# Altium footprint library Abracon.PcbLib: 4 footprints
Each footprint in its own frame and in the unit in brackets; x right, y up, seen from the top. Pads: shape width x height; smd on the part's side, far side on the other; paste and mask are expansions set on the pad; w line width, h text height; cw(c..) or ccw(c..) is an arc to the next point about the centre after c.
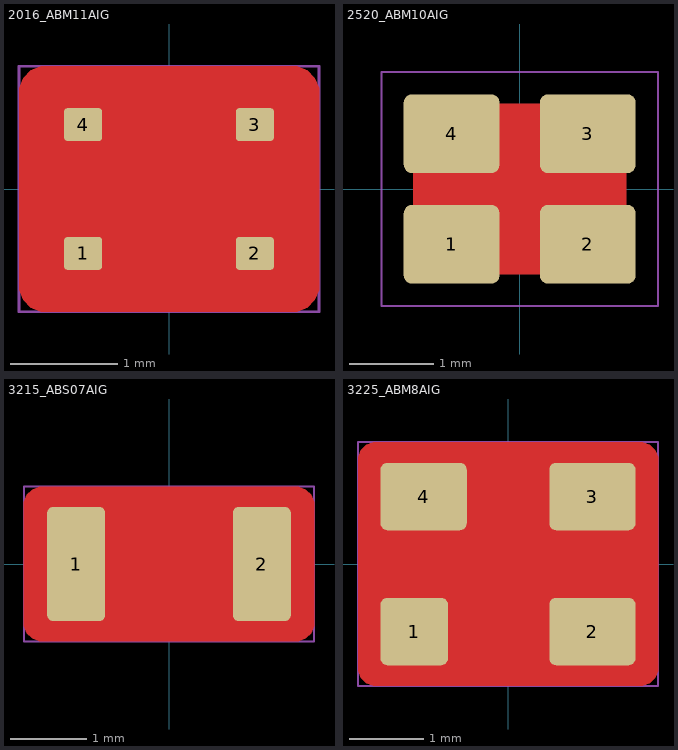
[diagram p0: the footprints below, top view; thin cyan lines are the x and y axes]

## 2016_ABM11AIG [mil] "2.0 mm x 1.6 mm Crystal"
pads (4):
  rrect20% 14x12 smd paste+0 mask+1.5: 1(-31.5,-23.62) 2(31.5,-23.62) 3(31.5,23.62) 4(-31.5,23.62)
Top Layer:
  region: 15.75,9.84 41.34,9.84 41.73,9.84 42.45,10.14 43.01,10.7 43.31,11.42 43.31,11.81 43.31,31.5 43.31,32.28 42.71,33.73 41.6,34.83 40.15,35.43 39.37,35.43 15.75,35.43 15.36,35.43 14.63,35.13 14.08,34.58 13.78,33.86 13.78,33.46 13.78,11.81 13.78,11.42 14.08,10.7 14.63,10.14 15.36,9.84
  pour cut-out: -45,-45 -46.99,-45 -50.66,-43.48 -53.48,-40.66 -55,-36.99 -55,-35 -55,35 -55,36.99 -53.48,40.66 -50.66,43.48 -46.99,45 -45,45 45,45 46.99,45 50.66,43.48 53.48,40.66 55,36.99 55,35 55,-35 55,-36.99 53.48,-40.66 50.66,-43.48 46.99,-45 45,-45
  region: 15.75,-9.84 15.36,-9.84 14.63,-10.14 14.08,-10.7 13.78,-11.42 13.78,-11.81 13.78,-33.46 13.78,-33.86 14.08,-34.58 14.63,-35.13 15.36,-35.43 15.75,-35.43 39.37,-35.43 40.15,-35.43 41.6,-34.83 42.71,-33.73 43.31,-32.28 43.31,-31.5 43.31,-11.81 43.31,-11.42 43.01,-10.7 42.45,-10.14 41.73,-9.84 41.34,-9.84
  region: -39.37,-35.43 -15.75,-35.43 -15.36,-35.43 -14.63,-35.13 -14.08,-34.58 -13.78,-33.86 -13.78,-33.46 -13.78,-19.11 -13.78,-18.78 -13.91,-18.13 -14.16,-17.52 -14.53,-16.97 -14.76,-16.73 -20.26,-11.23 -20.59,-10.9 -21.37,-10.38 -22.24,-10.03 -23.15,-9.84 -23.62,-9.84 -41.34,-9.84 -41.73,-9.84 -42.45,-10.14 -43.01,-10.7 -43.31,-11.42 -43.31,-11.81 -43.31,-31.5 -43.31,-32.28 -42.71,-33.73 -41.6,-34.83 -40.15,-35.43
  region: -39.37,35.43 -40.15,35.43 -41.6,34.83 -42.71,33.73 -43.31,32.28 -43.31,31.5 -43.31,11.81 -43.31,11.42 -43.01,10.7 -42.45,10.14 -41.73,9.84 -41.34,9.84 -15.75,9.84 -15.36,9.84 -14.63,10.14 -14.08,10.7 -13.78,11.42 -13.78,11.81 -13.78,33.46 -13.78,33.86 -14.08,34.58 -14.63,35.13 -15.36,35.43 -15.75,35.43
Top Solder:
  region: -7.87,-31.5 5.91,-40.35 5.91,-22.64
Top Component Outline:
  lines w1: -55,-45 -55,45 55,45 55,-45 -55,-45
Top 3D Body (Mech16):
  lines w1: -39.37,-9.84 -21.65,-9.84 -13.78,-17.72 -13.78,-31.5 ; -39.37,9.84 -13.78,9.84 -13.78,31.5 ; 13.78,-31.5 13.78,-9.84 39.37,-9.84 ; 13.78,31.5 13.78,9.84 39.37,9.84 ; -39.37,-31.5 -39.37,31.5 39.37,31.5 39.37,-31.5 -39.37,-31.5
3D body: height 21.65, standoff 0, extent -39.37,-31.5 39.37,31.5

## 2520_ABM10AIG [mil] "2.5 mm x 2.0 mm Crystal"
pads (4):
  rrect20% 45x37 smd mask+2: 1(-32,-26) 2(32,-26) 3(32,26) 4(-32,26)
Top Layer:
  pour cut-out: -50,40 -50,-40 50,-40 50,40
Top Solder:
  region: -65,-30 -76,-23 -76,-37
Top Component Outline:
  lines w1: -65,-55 -65,55 65,55 65,-55 -65,-55
Top 3D Body (Mech16):
  lines w1: -41.06,34.92 41.06,34.92 cw(c41.06,30.98) 45,30.98 45,-31 cw(c41.06,-31) 41.06,-34.94 ; -41.06,34.94 ccw(c-41.06,31) -45,31 -45,-30.98 ccw(c-41.06,-30.98) -41.06,-34.92 41.06,-34.92 ; -49.21,-35.43 cw(c-49.21,-39.37) -45.28,-39.37 45.28,-39.37 cw(c49.21,-39.37) 49.21,-35.43 49.21,35.43 cw(c49.21,39.37) 45.28,39.37 -45.28,39.37 cw(c-49.21,39.37) -49.21,35.43 -49.21,-35.43 ; -43.03,-30.98 ccw(c-41.06,-30.98) -41.06,-32.95 41.06,-32.95 ccw(c41.06,-30.98) 43.03,-30.98 43.03,31 ccw(c41.06,31) 41.06,32.97 -41.06,32.97 ccw(c-41.06,31) -43.03,31 -43.03,-30.98
3D body: height 22.35, standoff 22.05, extent -30.94,-20.98 -18.99,-9
3D body: height 22.05, standoff 21.26, extent -43.03,-32.95 43.03,32.97
3D body: height 21.65, standoff 8.27, extent -45,-34.92 45,34.92
3D body: height 11.81, standoff 0.39, extent -49.21,-39.37 49.21,39.37
3D body: height 7.87, standoff 0.39, extent -49.21,-39.37 -43.5,-33.5
3D body: height 7.87, standoff 0.39, extent 43.34,-39.37 49.21,-33.66
3D body: height 7.87, standoff 0.39, extent 43.5,33.5 49.21,39.37
3D body: height 7.87, standoff 0.39, extent -49.21,33.66 -43.34,39.37

## 3215_ABS07AIG [mil]
height 40
pads (2):
  rrect20% 30x59 smd paste-2 mask+2: 1(-48,0) 2(48,0)
Top Layer:
  pour cut-out: -65,40 -66.99,40 -70.66,38.48 -73.48,35.66 -75,31.99 -75,30 -75,-30 -75,-31.99 -73.48,-35.66 -70.66,-38.48 -66.99,-40 -65,-40 65,-40 66.99,-40 70.66,-38.48 73.48,-35.66 75,-31.99 75,-30 75,30 75,31.99 73.48,35.66 70.66,38.48 66.99,40 65,40
Top Component Outline:
  lines w1: -75,-40 75,-40 75,40 -75,40 -75,-40
3D body "SM8S.step": height 32.5, standoff 1, extent -62.99,-29.52 63,29.53

## 3225_ABM8AIG [mil] "3.2 mm x 2.5 mm Crystal"
pads (4):
  rrect20% 36x36 smd mask+2: 1(-50,-36)
  rrect20% 46x36 smd mask+2: 2(45,-36) 3(45,36) 4(-45,36)
Top Layer:
  pour cut-out: -70,-65 -71.99,-65 -75.66,-63.48 -78.48,-60.66 -80,-56.99 -80,-55 -80,55 -80,56.99 -78.48,60.66 -75.66,63.48 -71.99,65 -70,65 70,65 71.99,65 75.66,63.48 78.48,60.66 80,56.99 80,55 80,-55 80,-56.99 78.48,-60.66 75.66,-63.48 71.99,-65 70,-65
  region: -48,-18 -34,-18 -22,-30 -22,-50 -22,-50.8 -22.61,-52.27 -23.73,-53.39 -25.2,-54 -26,-54 -48,-54
Top Solder:
  region: -12.5,-50 2.5,-60 2.5,-40
Top Component Outline:
  lines w1: -80,-65 80,-65 80,65 -80,65 -80,-65
Top 3D Body (Mech16):
  lines w1: -62.97,-19.68 -35.43,-19.68 -23.6,-31.5 -23.6,-49.21 ; -62.97,19.7 -23.6,19.7 -23.6,49.23 ; 23.62,-49.21 23.62,-19.68 62.99,-19.68 ; 23.62,49.23 23.62,19.7 62.99,19.7 ; -62.98,-49.2 63,-49.2 63,49.22 -62.98,49.22 -62.98,-49.2
3D body "CTS-3225.step": height 29.51, standoff -1, extent -62.98,-49.2 63,49.22